# Altium schematic symbol library LTSpiceLibrary.SchLib: 10 symbols
Pins are listed as number, name and electrical type; pins without a type are passive.

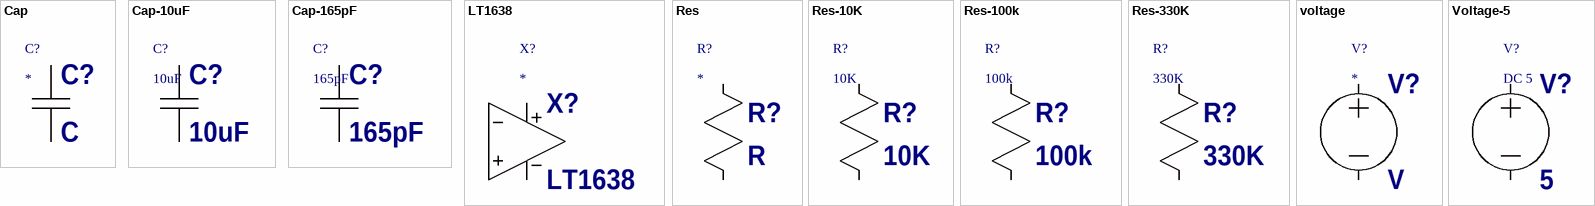
[diagram p0: symbols Cap to Voltage-5]

## Cap
designator C?  value C  InstName: C?
Prefix: C
pins: 1 A, 2 B

## Cap-10uF
designator C?, comment 10uF  InstName: C?
Prefix: C; Value: 10uF
simulation model Cap-10uF
pins: 1 A, 2 B

## Cap-165pF
designator C?, comment 165pF  InstName: C?
Prefix: C; Value: 165pF
simulation model Cap-165pF
pins: 1 A, 2 B

## LT1638
designator X?  value LT1638  InstName: X?
Prefix: X; SpiceModel: LTC.lib; Value2: LT1638
simulation model LT1638
pins: 1 In+, 2 In-, 3 V+, 4 V-, 5 OUT

## Res
designator R?  value R  InstName: R?
Prefix: R
pins: 1 A, 2 B

## Res-10K
designator R?, comment 10K  InstName: R?
Prefix: R; Value: 10K
simulation model Res-10K
pins: 1 A, 2 B

## Res-100k
designator R?, comment 100k  InstName: R?
Prefix: R; Value: 100k
simulation model Res-100k
pins: 1 A, 2 B

## Res-330K
designator R?, comment 330K  InstName: R?
Prefix: R; Value: 330K
simulation model Res-330K
pins: 1 A, 2 B

## voltage
designator V?  value V  InstName: V?
SINE voltage source; Prefix: V
simulation model voltage
pins: 1 +, 2 -

## Voltage-5
designator V?, comment DC 5  value 5  InstName: V?
voltage source; Prefix: V; Value: 5; AC Magnitude: 1; AC Phase: 0
simulation model Voltage-5
pins: 1 +, 2 -